# EAGLE library part JDY-08 (library JDY-08)
JDY-08 Bluetooth 4.0 Transceiver based on TI CC2540/CC2541
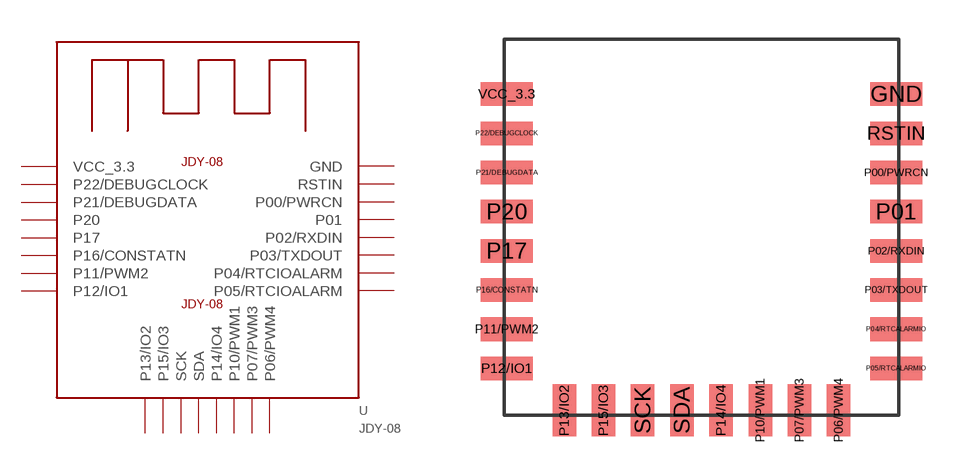
[diagram p0: symbol with the pads of JDY-08; footprint JDY-08]

Designator prefix U

## JDY-08  [JDY-08]
GND  GND
P00/PWRCN  P00/PWRCN
P01  P01
P02/RXDIN  P02/RXDIN
P03/TXDOUT  P03/TXDOUT
P04/RTCALARMIO  P04/RTCIOALARM
P05/RTCALARMIO  P05/RTCIOALARM
P06/PWM4  P06/PWM4
P07/PWM3  P07/PWM3
P10/PWM1  P10/PWM1
P11/PWM2  P11/PWM2
P12/IO1  P12/IO1
P13/IO2  P13/IO2
P14/IO4  P14/IO4
P15/IO3  P15/IO3
P16/CONSTATN  P16/CONSTATN
P17  P17
P20  P20
P21/DEBUGDATA  P21/DEBUGDATA
P22/DEBUGCLOCK  P22/DEBUGCLOCK
RSTIN  RSTIN
SCK  SCK
SDA  SDA
VCC_3.3  VCC_3.3

## Footprint JDY-08 (pad centres in mm)
JDY-08 BLUETOOTH MODULE
smd 2 x 0.9: GND 7.2,6; P00/PWRCN 7.2,3; P01 7.2,1.5; P02/RXDIN 7.2,0; P03/TXDOUT 7.2,-1.5; P04/RTCALARMIO 7.2,-3; P05/RTCALARMIO 7.2,-4.5; P11/PWM2 -7.7,-3; P12/IO1 -7.7,-4.5; P16/CONSTATN -7.7,-1.5; P17 -7.7,0; P20 -7.7,1.5; P21/DEBUGDATA -7.7,3; P22/DEBUGCLOCK -7.7,4.5; RSTIN 7.2,4.5; VCC_3.3 -7.7,6
smd 0.9 x 2: P06/PWM4 5,-6.1; P07/PWM3 3.5,-6.1; P10/PWM1 2,-6.1; P13/IO2 -5.5,-6.1; P14/IO4 0.5,-6.1; P15/IO3 -4,-6.1; SCK -2.5,-6.1; SDA -1,-6.1